# EAGLE library part DRV8837 (library motor-drivers)
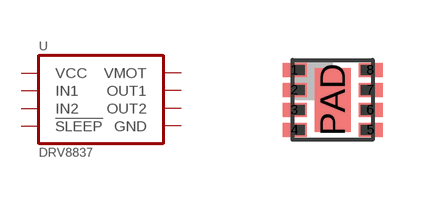
[diagram p8: symbol with the pads of DSG; footprint DSG]

Designator prefix U

## DRV8837  [DSG]
1  VMOT
2  OUT1
3  OUT2
4  GND
5  IN2
6  IN1
7  !SLEEP
8  VCC
PAD  GND

## Footprint DSG (pad centres in mm)
smd 0.6 x 0.35: 1 -0.95,0.75; 2 -0.95,0.25; 3 -0.95,-0.25; 4 -0.95,-0.75; 5 0.95,-0.75; 6 0.95,-0.25; 7 0.95,0.25; 8 0.95,0.75
smd 0.9 x 1.6: PAD 0,0